# Altium schematic symbol library WE-TI.SchLib: 140 symbols (part 1 of 3)
Pins are listed as number, name and electrical type; pins without a type are passive.

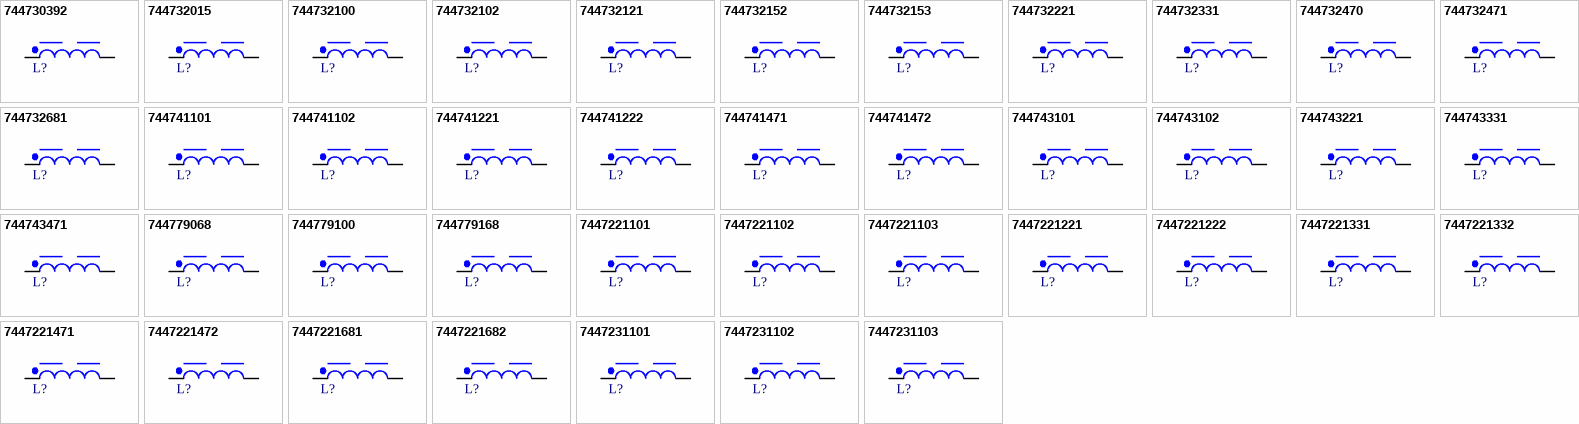
[diagram p0: symbols 744730392 to 7447231103]

## 744730392
designator L?, comment 3900uH, 0.18A  (value not drawn)
WE-TI Radial Leaded Wire Wound Inductor, size 8075, 3900uH, 0.18A, 12Ohm; Manufacturer Part Number: 744730392; Manufacturer: Wurth Elektronik; Case/Size Code: 8075; Saturation Current @ 10%: 0.2A; Self Resonant Frequency: 1.1MHz; Category: Power Inductors; Match Code: WE-TI; ComponentLink1Description: Website Link; ComponentLink1URL: https://www.we-online.com/redexpert/article/744730392?ad; ComponentLink2Description: Datasheet Link; ComponentLink2URL: https://www.we-online.com/redexpert/spec/744730392?ad; Mount: Through Hole; Operating Temperature Max: 125°C; Operating Temperature Min: -40°C; Packaging: Tray; Height: 8mm; Diameter: 9.5mm; DC Resistance Max: 12Ohm; Inductance: 3900uH; Rated Current: 0.18A
footprint WE-TI_8075
simulation model 8075_744730392_3900u
pins: 1, 2

## 744732015
designator L?, comment 1.5uH, 7A  (value not drawn)
WE-TI Radial Leaded Wire Wound Inductor, size 8075, 1.5uH, 7A, 0.01Ohm; Manufacturer Part Number: 744732015; Manufacturer: Wurth Elektronik; Case/Size Code: 8075; Saturation Current @ 10%: 9A; Self Resonant Frequency: 100MHz; Category: Power Inductors; Match Code: WE-TI; ComponentLink1Description: Website Link; ComponentLink1URL: https://www.we-online.com/redexpert/article/744732015?ad; ComponentLink2Description: Datasheet Link; ComponentLink2URL: https://www.we-online.com/redexpert/spec/744732015?ad; Mount: Through Hole; Operating Temperature Max: 125°C; Operating Temperature Min: -40°C; Packaging: Tray; Height: 8mm; Diameter: 9.5mm; DC Resistance Max: 0.01Ohm; Inductance: 1.5uH; Rated Current: 7A
footprint WE-TI_8075
simulation model 8075_744732015_1.5u
pins: 1, 2

## 744732100
designator L?, comment 10uH, 4A  (value not drawn)
WE-TI Radial Leaded Wire Wound Inductor, size 8075, 10uH, 4A, 0.033Ohm; Manufacturer Part Number: 744732100; Manufacturer: Wurth Elektronik; Case/Size Code: 8075; Self Resonant Frequency: 27MHz; Category: Power Inductors; Match Code: WE-TI; ComponentLink1Description: Website Link; ComponentLink1URL: https://www.we-online.com/redexpert/article/744732100?ad; ComponentLink2Description: Datasheet Link; ComponentLink2URL: https://www.we-online.com/redexpert/spec/744732100?ad; Mount: Through Hole; Operating Temperature Max: 125°C; Operating Temperature Min: -40°C; Packaging: Tray; Height: 8mm; Diameter: 9.5mm; DC Resistance Max: 0.033Ohm; Inductance: 10uH; Rated Current: 4A; Saturation Current @ 10%: 4A
footprint WE-TI_8075
simulation model 8075_744732100_10u
pins: 1, 2

## 744732102
designator L?, comment 1000uH, 0.33A  (value not drawn)
WE-TI Radial Leaded Wire Wound Inductor, size 8075, 1000uH, 0.33A, 3.4Ohm; Manufacturer Part Number: 744732102; Manufacturer: Wurth Elektronik; Case/Size Code: 8075; Saturation Current @ 10%: 0.6A; Self Resonant Frequency: 2.2MHz; Category: Power Inductors; Match Code: WE-TI; ComponentLink1Description: Website Link; ComponentLink1URL: https://www.we-online.com/redexpert/article/744732102?ad; ComponentLink2Description: Datasheet Link; ComponentLink2URL: https://www.we-online.com/redexpert/spec/744732102?ad; Mount: Through Hole; Operating Temperature Max: 125°C; Operating Temperature Min: -40°C; Packaging: Tray; Height: 8mm; Diameter: 9.5mm; DC Resistance Max: 3.4Ohm; Inductance: 1000uH; Rated Current: 0.33A
footprint WE-TI_8075
simulation model 8075_744732102_1000u
pins: 1, 2

## 744732121
designator L?, comment 120uH, 1A  (value not drawn)
WE-TI Radial Leaded Wire Wound Inductor, size 8075, 120uH, 1A, 0.38Ohm; Manufacturer Part Number: 744732121; Manufacturer: Wurth Elektronik; Case/Size Code: 8075; Saturation Current @ 10%: 1.1A; Self Resonant Frequency: 6.5MHz; Category: Power Inductors; Match Code: WE-TI; ComponentLink1Description: Website Link; ComponentLink1URL: https://www.we-online.com/redexpert/article/744732121?ad; ComponentLink2Description: Datasheet Link; ComponentLink2URL: https://www.we-online.com/redexpert/spec/744732121?ad; Mount: Through Hole; Operating Temperature Max: 125°C; Operating Temperature Min: -40°C; Packaging: Tray; Height: 8mm; Diameter: 9.5mm; DC Resistance Max: 0.38Ohm; Inductance: 120uH; Rated Current: 1A
footprint WE-TI_8075
simulation model 8075_744732121_120u
pins: 1, 2

## 744732152
designator L?, comment 1500uH, 0.29A  (value not drawn)
WE-TI Radial Leaded Wire Wound Inductor, size 8075, 1500uH, 0.29A, 4.7Ohm; Manufacturer Part Number: 744732152; Manufacturer: Wurth Elektronik; Case/Size Code: 8075; Saturation Current @ 10%: 0.5A; Self Resonant Frequency: 1.75MHz; Category: Power Inductors; Match Code: WE-TI; ComponentLink1Description: Website Link; ComponentLink1URL: https://www.we-online.com/redexpert/article/744732152?ad; ComponentLink2Description: Datasheet Link; ComponentLink2URL: https://www.we-online.com/redexpert/spec/744732152?ad; Mount: Through Hole; Operating Temperature Max: 125°C; Operating Temperature Min: -40°C; Packaging: Tray; Height: 8mm; Diameter: 9.5mm; DC Resistance Max: 4.7Ohm; Inductance: 1500uH; Rated Current: 0.29A
footprint WE-TI_8075
simulation model 8075_744732152_1500u
pins: 1, 2

## 744732153
designator L?, comment 15000uH, 0.1A  (value not drawn)
WE-TI Radial Leaded Wire Wound Inductor, size 8075, 15000uH, 0.1A, 60Ohm; Manufacturer Part Number: 744732153; Manufacturer: Wurth Elektronik; Case/Size Code: 8075; Saturation Current @ 10%: 0.15A; Self Resonant Frequency: 0.6MHz; Category: Power Inductors; Match Code: WE-TI; ComponentLink1Description: Website Link; ComponentLink1URL: https://www.we-online.com/redexpert/article/744732153?ad; ComponentLink2Description: Datasheet Link; ComponentLink2URL: https://www.we-online.com/redexpert/spec/744732153?ad; Mount: Through Hole; Operating Temperature Max: 125°C; Operating Temperature Min: -40°C; Packaging: Tray; Height: 8mm; Diameter: 9.5mm; DC Resistance Max: 60Ohm; Inductance: 15000uH; Rated Current: 0.1A
footprint WE-TI_8075
simulation model 8075_744732153_15000u
pins: 1, 2

## 744732221
designator L?, comment 220uH, 0.75A  (value not drawn)
WE-TI Radial Leaded Wire Wound Inductor, size 8075, 220uH, 0.75A, 0.7Ohm; Manufacturer Part Number: 744732221; Manufacturer: Wurth Elektronik; Case/Size Code: 8075; Saturation Current @ 10%: 1.2A; Self Resonant Frequency: 4.8MHz; Category: Power Inductors; Match Code: WE-TI; ComponentLink1Description: Website Link; ComponentLink1URL: https://www.we-online.com/redexpert/article/744732221?ad; ComponentLink2Description: Datasheet Link; ComponentLink2URL: https://www.we-online.com/redexpert/spec/744732221?ad; Mount: Through Hole; Operating Temperature Max: 125°C; Operating Temperature Min: -40°C; Packaging: Tray; Height: 8mm; Diameter: 9.5mm; DC Resistance Max: 0.7Ohm; Inductance: 220uH; Rated Current: 0.75A
footprint WE-TI_8075
simulation model 8075_744732221_220u
pins: 1, 2

## 744732331
designator L?, comment 330uH, 0.6A  (value not drawn)
WE-TI Radial Leaded Wire Wound Inductor, size 8075, 330uH, 0.6A, 1.2Ohm; Manufacturer Part Number: 744732331; Manufacturer: Wurth Elektronik; Case/Size Code: 8075; Saturation Current @ 10%: 1A; Self Resonant Frequency: 3.9MHz; Category: Power Inductors; Match Code: WE-TI; ComponentLink1Description: Website Link; ComponentLink1URL: https://www.we-online.com/redexpert/article/744732331?ad; ComponentLink2Description: Datasheet Link; ComponentLink2URL: https://www.we-online.com/redexpert/spec/744732331?ad; Mount: Through Hole; Operating Temperature Max: 125°C; Operating Temperature Min: -40°C; Packaging: Tray; Height: 8mm; Diameter: 9.5mm; DC Resistance Max: 1.2Ohm; Inductance: 330uH; Rated Current: 0.6A
footprint WE-TI_8075
simulation model 8075_744732331_330u
pins: 1, 2

## 744732470
designator L?, comment 47uH, 1.8A  (value not drawn)
WE-TI Radial Leaded Wire Wound Inductor, size 8075, 47uH, 1.8A, 0.14Ohm; Manufacturer Part Number: 744732470; Manufacturer: Wurth Elektronik; Case/Size Code: 8075; Saturation Current @ 10%: 1.9A; Self Resonant Frequency: 11MHz; Category: Power Inductors; Match Code: WE-TI; ComponentLink1Description: Website Link; ComponentLink1URL: https://www.we-online.com/redexpert/article/744732470?ad; ComponentLink2Description: Datasheet Link; ComponentLink2URL: https://www.we-online.com/redexpert/spec/744732470?ad; Mount: Through Hole; Operating Temperature Max: 125°C; Operating Temperature Min: -40°C; Packaging: Tray; Height: 8mm; Diameter: 9.5mm; DC Resistance Max: 0.14Ohm; Inductance: 47uH; Rated Current: 1.8A
footprint WE-TI_8075
simulation model 8075_744732470_47u
pins: 1, 2

## 744732471
designator L?, comment 470uH, 0.45A  (value not drawn)
WE-TI Radial Leaded Wire Wound Inductor, size 8075, 470uH, 0.45A, 1.7Ohm; Manufacturer Part Number: 744732471; Manufacturer: Wurth Elektronik; Case/Size Code: 8075; Saturation Current @ 10%: 0.9A; Self Resonant Frequency: 2.8MHz; Category: Power Inductors; Match Code: WE-TI; ComponentLink1Description: Website Link; ComponentLink1URL: https://www.we-online.com/redexpert/article/744732471?ad; ComponentLink2Description: Datasheet Link; ComponentLink2URL: https://www.we-online.com/redexpert/spec/744732471?ad; Mount: Through Hole; Operating Temperature Max: 125°C; Operating Temperature Min: -40°C; Packaging: Tray; Height: 8mm; Diameter: 9.5mm; DC Resistance Max: 1.7Ohm; Inductance: 470uH; Rated Current: 0.45A
footprint WE-TI_8075
simulation model 8075_744732471_470u
pins: 1, 2

## 744732681
designator L?, comment 680uH, 0.42A  (value not drawn)
WE-TI Radial Leaded Wire Wound Inductor, size 8075, 680uH, 0.42A, 2.2Ohm; Manufacturer Part Number: 744732681; Manufacturer: Wurth Elektronik; Case/Size Code: 8075; Saturation Current @ 10%: 0.75A; Self Resonant Frequency: 2.3MHz; Category: Power Inductors; Match Code: WE-TI; ComponentLink1Description: Website Link; ComponentLink1URL: https://www.we-online.com/redexpert/article/744732681?ad; ComponentLink2Description: Datasheet Link; ComponentLink2URL: https://www.we-online.com/redexpert/spec/744732681?ad; Mount: Through Hole; Operating Temperature Max: 125°C; Operating Temperature Min: -40°C; Packaging: Tray; Height: 8mm; Diameter: 9.5mm; DC Resistance Max: 2.2Ohm; Inductance: 680uH; Rated Current: 0.42A
footprint WE-TI_8075
simulation model 8075_744732681_680u
pins: 1, 2

## 744741101
designator L?, comment 100uH, 1.1A  (value not drawn)
WE-TI Radial Leaded Wire Wound Inductor, size 8055, 100uH, 1.1A, 1Ohm; Manufacturer Part Number: 744741101; Manufacturer: Wurth Elektronik; Case/Size Code: 8055; Saturation Current @ 10%: 0.9A; Self Resonant Frequency: 9.4MHz; Category: Power Inductors; Match Code: WE-TI; ComponentLink1Description: Website Link; ComponentLink1URL: https://www.we-online.com/redexpert/article/744741101?ad; ComponentLink2Description: Datasheet Link; ComponentLink2URL: https://www.we-online.com/redexpert/spec/744741101?ad; Mount: Through Hole; Operating Temperature Max: 125°C; Operating Temperature Min: -40°C; Packaging: Tray; Height: 5.5mm; Diameter: 8.5mm; DC Resistance Max: 1Ohm; Inductance: 100uH; Rated Current: 1.1A
footprint WE-TI_8055
simulation model 8055_744741101_100u
pins: 1, 2

## 744741102
designator L?, comment 1000uH, 0.29A  (value not drawn)
WE-TI Radial Leaded Wire Wound Inductor, size 8055, 1000uH, 0.29A, 6Ohm; Manufacturer Part Number: 744741102; Manufacturer: Wurth Elektronik; Case/Size Code: 8055; Saturation Current @ 10%: 0.3A; Self Resonant Frequency: 2.7MHz; Category: Power Inductors; Match Code: WE-TI; ComponentLink1Description: Website Link; ComponentLink1URL: https://www.we-online.com/redexpert/article/744741102?ad; ComponentLink2Description: Datasheet Link; ComponentLink2URL: https://www.we-online.com/redexpert/spec/744741102?ad; Mount: Through Hole; Operating Temperature Max: 125°C; Operating Temperature Min: -40°C; Packaging: Tray; Height: 5.5mm; Diameter: 8.5mm; DC Resistance Max: 6Ohm; Inductance: 1000uH; Rated Current: 0.29A
footprint WE-TI_8055
simulation model 8055_744741102_1000u
pins: 1, 2

## 744741221
designator L?, comment 220uH, 0.66A  (value not drawn)
WE-TI Radial Leaded Wire Wound Inductor, size 8055, 220uH, 0.66A, 1.5Ohm; Manufacturer Part Number: 744741221; Manufacturer: Wurth Elektronik; Case/Size Code: 8055; Saturation Current @ 10%: 0.75A; Self Resonant Frequency: 6MHz; Category: Power Inductors; Match Code: WE-TI; ComponentLink1Description: Website Link; ComponentLink1URL: https://www.we-online.com/redexpert/article/744741221?ad; ComponentLink2Description: Datasheet Link; ComponentLink2URL: https://www.we-online.com/redexpert/spec/744741221?ad; Mount: Through Hole; Operating Temperature Max: 125°C; Operating Temperature Min: -40°C; Packaging: Tray; Height: 5.5mm; Diameter: 8.5mm; DC Resistance Max: 1.5Ohm; Inductance: 220uH; Rated Current: 0.66A
footprint WE-TI_8055
simulation model 8055_744741221_220u
pins: 1, 2

## 744741222
designator L?, comment 2200uH, 0.21A  (value not drawn)
WE-TI Radial Leaded Wire Wound Inductor, size 8055, 2200uH, 0.21A, 11Ohm; Manufacturer Part Number: 744741222; Manufacturer: Wurth Elektronik; Case/Size Code: 8055; Saturation Current @ 10%: 0.2A; Self Resonant Frequency: 1.9MHz; Category: Power Inductors; Match Code: WE-TI; ComponentLink1Description: Website Link; ComponentLink1URL: https://www.we-online.com/redexpert/article/744741222?ad; ComponentLink2Description: Datasheet Link; ComponentLink2URL: https://www.we-online.com/redexpert/spec/744741222?ad; Mount: Through Hole; Operating Temperature Max: 125°C; Operating Temperature Min: -40°C; Packaging: Tray; Height: 5.5mm; Diameter: 8.5mm; DC Resistance Max: 11Ohm; Inductance: 2200uH; Rated Current: 0.21A
footprint WE-TI_8055
simulation model 8055_744741222_2200u
pins: 1, 2

## 744741471
designator L?, comment 470uH, 0.44A  (value not drawn)
WE-TI Radial Leaded Wire Wound Inductor, size 8055, 470uH, 0.44A, 3Ohm; Manufacturer Part Number: 744741471; Manufacturer: Wurth Elektronik; Case/Size Code: 8055; Saturation Current @ 10%: 0.4A; Self Resonant Frequency: 4.3MHz; Category: Power Inductors; Match Code: WE-TI; ComponentLink1Description: Website Link; ComponentLink1URL: https://www.we-online.com/redexpert/article/744741471?ad; ComponentLink2Description: Datasheet Link; ComponentLink2URL: https://www.we-online.com/redexpert/spec/744741471?ad; Mount: Through Hole; Operating Temperature Max: 125°C; Operating Temperature Min: -40°C; Packaging: Tray; Height: 5.5mm; Diameter: 8.5mm; DC Resistance Max: 3Ohm; Inductance: 470uH; Rated Current: 0.44A
footprint WE-TI_8055
simulation model 8055_744741471_470u
pins: 1, 2

## 744741472
designator L?, comment 4700uH, 0.15A  (value not drawn)
WE-TI Radial Leaded Wire Wound Inductor, size 8055, 4700uH, 0.15A, 25Ohm; Manufacturer Part Number: 744741472; Manufacturer: Wurth Elektronik; Case/Size Code: 8055; Self Resonant Frequency: 1.3MHz; Category: Power Inductors; Match Code: WE-TI; ComponentLink1Description: Website Link; ComponentLink1URL: https://www.we-online.com/redexpert/article/744741472?ad; ComponentLink2Description: Datasheet Link; ComponentLink2URL: https://www.we-online.com/redexpert/spec/744741472?ad; Mount: Through Hole; Operating Temperature Max: 125°C; Operating Temperature Min: -40°C; Packaging: Tray; Height: 5.5mm; Diameter: 8.5mm; DC Resistance Max: 25Ohm; Inductance: 4700uH; Rated Current: 0.15A; Saturation Current @ 10%: 0.15A
footprint WE-TI_8055
simulation model 8055_744741472_4700u
pins: 1, 2

## 744743101
designator L?, comment 100uH, 1.5A  (value not drawn)
WE-TI Radial Leaded Wire Wound Inductor, size 8012B, 100uH, 1.5A, 0.3Ohm; Manufacturer Part Number: 744743101; Manufacturer: Wurth Elektronik; Saturation Current @ 10%: 1.6A; Self Resonant Frequency: 5.1MHz; Category: Power Inductors; Match Code: WE-TI; ComponentLink1Description: Website Link; ComponentLink1URL: https://www.we-online.com/redexpert/article/744743101?ad; ComponentLink2Description: Datasheet Link; ComponentLink2URL: https://www.we-online.com/redexpert/spec/744743101?ad; Mount: Through Hole; Operating Temperature Max: 125°C; Operating Temperature Min: -40°C; Packaging: Tray; Case/Size Code: 8012B; Height: 12.5mm; Diameter: 8mm; DC Resistance Max: 0.3Ohm; Inductance: 100uH; Rated Current: 1.5A
footprint WE-TI_8012B
simulation model 8012B_744743101_100u
pins: 1, 2

## 744743102
designator L?, comment 1000uH, 0.42A  (value not drawn)
WE-TI Radial Leaded Wire Wound Inductor, size 8012B, 1000uH, 0.42A, 2.5Ohm; Manufacturer Part Number: 744743102; Manufacturer: Wurth Elektronik; Saturation Current @ 10%: 0.55A; Self Resonant Frequency: 1.6MHz; Category: Power Inductors; Match Code: WE-TI; ComponentLink1Description: Website Link; ComponentLink1URL: https://www.we-online.com/redexpert/article/744743102?ad; ComponentLink2Description: Datasheet Link; ComponentLink2URL: https://www.we-online.com/redexpert/spec/744743102?ad; Mount: Through Hole; Operating Temperature Max: 125°C; Operating Temperature Min: -40°C; Packaging: Tray; Case/Size Code: 8012B; Height: 12.5mm; Diameter: 8mm; DC Resistance Max: 2.5Ohm; Inductance: 1000uH; Rated Current: 0.42A
footprint WE-TI_8012B
simulation model 8012B_744743102_1000u
pins: 1, 2

## 744743221
designator L?, comment 220uH, 0.96A  (value not drawn)
WE-TI Radial Leaded Wire Wound Inductor, size 8012B, 220uH, 0.96A, 0.55Ohm; Manufacturer Part Number: 744743221; Manufacturer: Wurth Elektronik; Saturation Current @ 10%: 1.2A; Self Resonant Frequency: 3.5MHz; Category: Power Inductors; Match Code: WE-TI; ComponentLink1Description: Website Link; ComponentLink1URL: https://www.we-online.com/redexpert/article/744743221?ad; ComponentLink2Description: Datasheet Link; ComponentLink2URL: https://www.we-online.com/redexpert/spec/744743221?ad; Mount: Through Hole; Operating Temperature Max: 125°C; Operating Temperature Min: -40°C; Packaging: Tray; Case/Size Code: 8012B; Height: 12.5mm; Diameter: 8mm; DC Resistance Max: 0.55Ohm; Inductance: 220uH; Rated Current: 0.96A
footprint WE-TI_8012B
simulation model 8012B_744743221_220u
pins: 1, 2

## 744743331
designator L?, comment 330uH, 0.74A  (value not drawn)
WE-TI Radial Leaded Wire Wound Inductor, size 8012B, 330uH, 0.74A, 1.2Ohm; Manufacturer Part Number: 744743331; Manufacturer: Wurth Elektronik; Saturation Current @ 10%: 1A; Self Resonant Frequency: 2.8MHz; Category: Power Inductors; Match Code: WE-TI; ComponentLink1Description: Website Link; ComponentLink1URL: https://www.we-online.com/redexpert/article/744743331?ad; ComponentLink2Description: Datasheet Link; ComponentLink2URL: https://www.we-online.com/redexpert/spec/744743331?ad; Mount: Through Hole; Operating Temperature Max: 125°C; Operating Temperature Min: -40°C; Packaging: Tray; Case/Size Code: 8012B; Height: 12.5mm; Diameter: 8mm; DC Resistance Max: 1.2Ohm; Inductance: 330uH; Rated Current: 0.74A
footprint WE-TI_8012B
simulation model 8012B_744743331_330u
pins: 1, 2

## 744743471
designator L?, comment 470uH, 0.58A  (value not drawn)
WE-TI Radial Leaded Wire Wound Inductor, size 8012B, 470uH, 0.58A, 1.5Ohm; Manufacturer Part Number: 744743471; Manufacturer: Wurth Elektronik; Saturation Current @ 10%: 0.8A; Self Resonant Frequency: 2.3MHz; Category: Power Inductors; Match Code: WE-TI; ComponentLink1Description: Website Link; ComponentLink1URL: https://www.we-online.com/redexpert/article/744743471?ad; ComponentLink2Description: Datasheet Link; ComponentLink2URL: https://www.we-online.com/redexpert/spec/744743471?ad; Mount: Through Hole; Operating Temperature Max: 125°C; Operating Temperature Min: -40°C; Packaging: Tray; Case/Size Code: 8012B; Height: 12.5mm; Diameter: 8mm; DC Resistance Max: 1.5Ohm; Inductance: 470uH; Rated Current: 0.58A
footprint WE-TI_8012B
simulation model 8012B_744743471_470u
pins: 1, 2

## 744779068
designator L?, comment 6.8uH, 2.2A  (value not drawn)
WE-TI Radial Leaded Wire Wound Inductor, size 6065, 6.8uH, 2.2A, 0.035Ohm; Manufacturer Part Number: 744779068; Manufacturer: Wurth Elektronik; Case/Size Code: 6065; Saturation Current @ 10%: 2.8A; Self Resonant Frequency: 40MHz; Category: Power Inductors; Match Code: WE-TI; ComponentLink1Description: Website Link; ComponentLink1URL: https://www.we-online.com/redexpert/article/744779068?ad; ComponentLink2Description: Datasheet Link; ComponentLink2URL: https://www.we-online.com/redexpert/spec/744779068?ad; Mount: Through Hole; Operating Temperature Max: 125°C; Operating Temperature Min: -40°C; Packaging: Tray; Height: 6.5mm; Diameter: 6mm; DC Resistance Max: 0.035Ohm; Inductance: 6.8uH; Rated Current: 2.2A
footprint WE-TI_6065
simulation model 6065_744779068_6.8u
pins: 1, 2

## 744779100
designator L?, comment 10uH, 1.85A  (value not drawn)
WE-TI Radial Leaded Wire Wound Inductor, size 6065, 10uH, 1.85A, 0.05Ohm; Manufacturer Part Number: 744779100; Manufacturer: Wurth Elektronik; Case/Size Code: 6065; Saturation Current @ 10%: 2.1A; Self Resonant Frequency: 28MHz; Category: Power Inductors; Match Code: WE-TI; ComponentLink1Description: Website Link; ComponentLink1URL: https://www.we-online.com/redexpert/article/744779100?ad; ComponentLink2Description: Datasheet Link; ComponentLink2URL: https://www.we-online.com/redexpert/spec/744779100?ad; Mount: Through Hole; Operating Temperature Max: 125°C; Operating Temperature Min: -40°C; Packaging: Tray; Height: 6.5mm; Diameter: 6mm; DC Resistance Max: 0.05Ohm; Inductance: 10uH; Rated Current: 1.85A
footprint WE-TI_6065
simulation model 6065_744779100_10u
pins: 1, 2

## 744779168
designator L?, comment 68uH, 1.4A  (value not drawn)
WE-TI Radial Leaded Wire Wound Inductor, size 6065, 68uH, 1.4A, 0.28Ohm; Manufacturer Part Number: 744779168; Manufacturer: Wurth Elektronik; Case/Size Code: 6065; Saturation Current @ 10%: 0.72A; Self Resonant Frequency: 9.4MHz; Category: Power Inductors; Match Code: WE-TI; ComponentLink1Description: Website Link; ComponentLink1URL: https://www.we-online.com/redexpert/article/744779168?ad; ComponentLink2Description: Datasheet Link; ComponentLink2URL: https://www.we-online.com/redexpert/spec/744779168?ad; Mount: Through Hole; Operating Temperature Max: 125°C; Operating Temperature Min: -40°C; Packaging: Tray; Height: 6.5mm; Diameter: 6mm; DC Resistance Max: 0.28Ohm; Inductance: 68uH; Rated Current: 1.4A
footprint WE-TI_6065
simulation model 6065_744779168_68u
pins: 1, 2

## 7447221101
designator L?, comment 100uH, 2.45A  (value not drawn)
WE-TI Radial Leaded Wire Wound Inductor, size 1016, 100uH, 2.45A, 0.1Ohm; Manufacturer Part Number: 7447221101; Manufacturer: Wurth Elektronik; Case/Size Code: 1016; Saturation Current @ 10%: 2.75A; Self Resonant Frequency: 4MHz; Category: Power Inductors; Match Code: WE-TI; ComponentLink1Description: Website Link; ComponentLink1URL: https://www.we-online.com/redexpert/article/7447221101?ad; ComponentLink2Description: Datasheet Link; ComponentLink2URL: https://www.we-online.com/redexpert/spec/7447221101?ad; Mount: Through Hole; Operating Temperature Max: 125°C; Operating Temperature Min: -40°C; Packaging: Tray; Height: 17mm; Diameter: 11mm; DC Resistance Max: 0.1Ohm; Inductance: 100uH; Rated Current: 2.45A
footprint WE-TI_1016
simulation model 1016_7447221101_100u
pins: 1, 2

## 7447221102
designator L?, comment 1000uH, 0.75A  (value not drawn)
WE-TI Radial Leaded Wire Wound Inductor, size 1016, 1000uH, 0.75A, 0.98Ohm; Manufacturer Part Number: 7447221102; Manufacturer: Wurth Elektronik; Case/Size Code: 1016; Saturation Current @ 10%: 0.9A; Self Resonant Frequency: 1MHz; Category: Power Inductors; Match Code: WE-TI; ComponentLink1Description: Website Link; ComponentLink1URL: https://www.we-online.com/redexpert/article/7447221102?ad; ComponentLink2Description: Datasheet Link; ComponentLink2URL: https://www.we-online.com/redexpert/spec/7447221102?ad; Mount: Through Hole; Operating Temperature Max: 125°C; Operating Temperature Min: -40°C; Packaging: Tray; Height: 17mm; Diameter: 11mm; DC Resistance Max: 0.98Ohm; Inductance: 1000uH; Rated Current: 0.75A
footprint WE-TI_1016
simulation model 1016_7447221102_1000u
pins: 1, 2

## 7447221103
designator L?, comment 10000uH, 0.23A  (value not drawn)
WE-TI Radial Leaded Wire Wound Inductor, size 1016, 10000uH, 0.23A, 9.7Ohm; Manufacturer Part Number: 7447221103; Manufacturer: Wurth Elektronik; Case/Size Code: 1016; Saturation Current @ 10%: 0.29A; Self Resonant Frequency: 0.26MHz; Category: Power Inductors; Match Code: WE-TI; ComponentLink1Description: Website Link; ComponentLink1URL: https://www.we-online.com/redexpert/article/7447221103?ad; ComponentLink2Description: Datasheet Link; ComponentLink2URL: https://www.we-online.com/redexpert/spec/7447221103?ad; Mount: Through Hole; Operating Temperature Max: 125°C; Operating Temperature Min: -40°C; Packaging: Tray; Height: 17mm; Diameter: 11mm; DC Resistance Max: 9.7Ohm; Inductance: 10000uH; Rated Current: 0.23A
footprint WE-TI_1016
simulation model 1016_7447221103_10000u
pins: 1, 2

## 7447221221
designator L?, comment 220uH, 1.65A  (value not drawn)
WE-TI Radial Leaded Wire Wound Inductor, size 1016, 220uH, 1.65A, 0.22Ohm; Manufacturer Part Number: 7447221221; Manufacturer: Wurth Elektronik; Case/Size Code: 1016; Saturation Current @ 10%: 1.9A; Self Resonant Frequency: 2.5MHz; Category: Power Inductors; Match Code: WE-TI; ComponentLink1Description: Website Link; ComponentLink1URL: https://www.we-online.com/redexpert/article/7447221221?ad; ComponentLink2Description: Datasheet Link; ComponentLink2URL: https://www.we-online.com/redexpert/spec/7447221221?ad; Mount: Through Hole; Operating Temperature Max: 125°C; Operating Temperature Min: -40°C; Packaging: Tray; Height: 17mm; Diameter: 11mm; DC Resistance Max: 0.22Ohm; Inductance: 220uH; Rated Current: 1.65A
footprint WE-TI_1016
simulation model 1016_7447221221_220u
pins: 1, 2

## 7447221222
designator L?, comment 2200uH, 0.5A  (value not drawn)
WE-TI Radial Leaded Wire Wound Inductor, size 1016, 2200uH, 0.5A, 2.1Ohm; Manufacturer Part Number: 7447221222; Manufacturer: Wurth Elektronik; Case/Size Code: 1016; Saturation Current @ 10%: 0.61A; Self Resonant Frequency: 0.65MHz; Category: Power Inductors; Match Code: WE-TI; ComponentLink1Description: Website Link; ComponentLink1URL: https://www.we-online.com/redexpert/article/7447221222?ad; ComponentLink2Description: Datasheet Link; ComponentLink2URL: https://www.we-online.com/redexpert/spec/7447221222?ad; Mount: Through Hole; Operating Temperature Max: 125°C; Operating Temperature Min: -40°C; Packaging: Tray; Height: 17mm; Diameter: 11mm; DC Resistance Max: 2.1Ohm; Inductance: 2200uH; Rated Current: 0.5A
footprint WE-TI_1016
simulation model 1016_7447221222_2200u
pins: 1, 2

## 7447221331
designator L?, comment 330uH, 1.35A  (value not drawn)
WE-TI Radial Leaded Wire Wound Inductor, size 1016, 330uH, 1.35A, 0.32Ohm; Manufacturer Part Number: 7447221331; Manufacturer: Wurth Elektronik; Case/Size Code: 1016; Saturation Current @ 10%: 1.55A; Self Resonant Frequency: 2MHz; Category: Power Inductors; Match Code: WE-TI; ComponentLink1Description: Website Link; ComponentLink1URL: https://www.we-online.com/redexpert/article/7447221331?ad; ComponentLink2Description: Datasheet Link; ComponentLink2URL: https://www.we-online.com/redexpert/spec/7447221331?ad; Mount: Through Hole; Operating Temperature Max: 125°C; Operating Temperature Min: -40°C; Packaging: Tray; Height: 17mm; Diameter: 11mm; DC Resistance Max: 0.32Ohm; Inductance: 330uH; Rated Current: 1.35A
footprint WE-TI_1016
simulation model 1016_7447221331_330u
pins: 1, 2

## 7447221332
designator L?, comment 3300uH, 0.4A  (value not drawn)
WE-TI Radial Leaded Wire Wound Inductor, size 1016, 3300uH, 0.4A, 3.2Ohm; Manufacturer Part Number: 7447221332; Manufacturer: Wurth Elektronik; Case/Size Code: 1016; Saturation Current @ 10%: 0.5A; Self Resonant Frequency: 0.5MHz; Category: Power Inductors; Match Code: WE-TI; ComponentLink1Description: Website Link; ComponentLink1URL: https://www.we-online.com/redexpert/article/7447221332?ad; ComponentLink2Description: Datasheet Link; ComponentLink2URL: https://www.we-online.com/redexpert/spec/7447221332?ad; Mount: Through Hole; Operating Temperature Max: 125°C; Operating Temperature Min: -40°C; Packaging: Tray; Height: 17mm; Diameter: 11mm; DC Resistance Max: 3.2Ohm; Inductance: 3300uH; Rated Current: 0.4A
footprint WE-TI_1016
simulation model 1016_7447221332_3300u
pins: 1, 2

## 7447221471
designator L?, comment 470uH, 1.1A  (value not drawn)
WE-TI Radial Leaded Wire Wound Inductor, size 1016, 470uH, 1.1A, 0.46Ohm; Manufacturer Part Number: 7447221471; Manufacturer: Wurth Elektronik; Case/Size Code: 1016; Saturation Current @ 10%: 1.3A; Self Resonant Frequency: 1.6MHz; Category: Power Inductors; Match Code: WE-TI; ComponentLink1Description: Website Link; ComponentLink1URL: https://www.we-online.com/redexpert/article/7447221471?ad; ComponentLink2Description: Datasheet Link; ComponentLink2URL: https://www.we-online.com/redexpert/spec/7447221471?ad; Mount: Through Hole; Operating Temperature Max: 125°C; Operating Temperature Min: -40°C; Packaging: Tray; Height: 17mm; Diameter: 11mm; DC Resistance Max: 0.46Ohm; Inductance: 470uH; Rated Current: 1.1A
footprint WE-TI_1016
simulation model 1016_7447221471_470u
pins: 1, 2

## 7447221472
designator L?, comment 4700uH, 0.34A  (value not drawn)
WE-TI Radial Leaded Wire Wound Inductor, size 1016, 4700uH, 0.34A, 4.6Ohm; Manufacturer Part Number: 7447221472; Manufacturer: Wurth Elektronik; Case/Size Code: 1016; Saturation Current @ 10%: 0.42A; Self Resonant Frequency: 0.41MHz; Category: Power Inductors; Match Code: WE-TI; ComponentLink1Description: Website Link; ComponentLink1URL: https://www.we-online.com/redexpert/article/7447221472?ad; ComponentLink2Description: Datasheet Link; ComponentLink2URL: https://www.we-online.com/redexpert/spec/7447221472?ad; Mount: Through Hole; Operating Temperature Max: 125°C; Operating Temperature Min: -40°C; Packaging: Tray; Height: 17mm; Diameter: 11mm; DC Resistance Max: 4.6Ohm; Inductance: 4700uH; Rated Current: 0.34A
footprint WE-TI_1016
simulation model 1016_7447221472_4700u
pins: 1, 2

## 7447221681
designator L?, comment 680uH, 0.9A  (value not drawn)
WE-TI Radial Leaded Wire Wound Inductor, size 1016, 680uH, 0.9A, 0.67Ohm; Manufacturer Part Number: 7447221681; Manufacturer: Wurth Elektronik; Case/Size Code: 1016; Saturation Current @ 10%: 1.1A; Self Resonant Frequency: 1.3MHz; Category: Power Inductors; Match Code: WE-TI; ComponentLink1Description: Website Link; ComponentLink1URL: https://www.we-online.com/redexpert/article/7447221681?ad; ComponentLink2Description: Datasheet Link; ComponentLink2URL: https://www.we-online.com/redexpert/spec/7447221681?ad; Mount: Through Hole; Operating Temperature Max: 125°C; Operating Temperature Min: -40°C; Packaging: Tray; Height: 17mm; Diameter: 11mm; DC Resistance Max: 0.67Ohm; Inductance: 680uH; Rated Current: 0.9A
footprint WE-TI_1016
simulation model 1016_7447221681_680u
pins: 1, 2

## 7447221682
designator L?, comment 6800uH, 0.28A  (value not drawn)
WE-TI Radial Leaded Wire Wound Inductor, size 1016, 6800uH, 0.28A, 6.6Ohm; Manufacturer Part Number: 7447221682; Manufacturer: Wurth Elektronik; Case/Size Code: 1016; Saturation Current @ 10%: 0.35A; Self Resonant Frequency: 0.33MHz; Category: Power Inductors; Match Code: WE-TI; ComponentLink1Description: Website Link; ComponentLink1URL: https://www.we-online.com/redexpert/article/7447221682?ad; ComponentLink2Description: Datasheet Link; ComponentLink2URL: https://www.we-online.com/redexpert/spec/7447221682?ad; Mount: Through Hole; Operating Temperature Max: 125°C; Operating Temperature Min: -40°C; Packaging: Tray; Height: 17mm; Diameter: 11mm; DC Resistance Max: 6.6Ohm; Inductance: 6800uH; Rated Current: 0.28A
footprint WE-TI_1016
simulation model 1016_7447221682_6800u
pins: 1, 2

## 7447231101
designator L?, comment 100uH, 2.6A  (value not drawn)
WE-TI Radial Leaded Wire Wound Inductor, size 1018, 100uH, 2.6A, 0.09Ohm; Manufacturer Part Number: 7447231101; Manufacturer: Wurth Elektronik; Case/Size Code: 1018; Saturation Current @ 10%: 3.1A; Self Resonant Frequency: 3.6MHz; Category: Power Inductors; Match Code: WE-TI; ComponentLink1Description: Website Link; ComponentLink1URL: https://www.we-online.com/redexpert/article/7447231101?ad; ComponentLink2Description: Datasheet Link; ComponentLink2URL: https://www.we-online.com/redexpert/spec/7447231101?ad; Mount: Through Hole; Operating Temperature Max: 125°C; Operating Temperature Min: -40°C; Packaging: Tray; Height: 19mm; Diameter: 11mm; DC Resistance Max: 0.09Ohm; Inductance: 100uH; Rated Current: 2.6A
footprint WE-TI_1018
simulation model 1018_7447231101_100u
pins: 1, 2

## 7447231102
designator L?, comment 1000uH, 0.8A  (value not drawn)
WE-TI Radial Leaded Wire Wound Inductor, size 1018, 1000uH, 0.8A, 0.86Ohm; Manufacturer Part Number: 7447231102; Manufacturer: Wurth Elektronik; Case/Size Code: 1018; Saturation Current @ 10%: 1A; Self Resonant Frequency: 1.1MHz; Category: Power Inductors; Match Code: WE-TI; ComponentLink1Description: Website Link; ComponentLink1URL: https://www.we-online.com/redexpert/article/7447231102?ad; ComponentLink2Description: Datasheet Link; ComponentLink2URL: https://www.we-online.com/redexpert/spec/7447231102?ad; Mount: Through Hole; Operating Temperature Max: 125°C; Operating Temperature Min: -40°C; Packaging: Tray; Height: 19mm; Diameter: 11mm; DC Resistance Max: 0.86Ohm; Inductance: 1000uH; Rated Current: 0.8A
footprint WE-TI_1018
simulation model 1018_7447231102_1000u
pins: 1, 2

## 7447231103
designator L?, comment 10000uH, 0.25A  (value not drawn)
WE-TI Radial Leaded Wire Wound Inductor, size 1018, 10000uH, 0.25A, 8.5Ohm; Manufacturer Part Number: 7447231103; Manufacturer: Wurth Elektronik; Case/Size Code: 1018; Saturation Current @ 10%: 0.32A; Self Resonant Frequency: 0.32MHz; Category: Power Inductors; Match Code: WE-TI; ComponentLink1Description: Website Link; ComponentLink1URL: https://www.we-online.com/redexpert/article/7447231103?ad; ComponentLink2Description: Datasheet Link; ComponentLink2URL: https://www.we-online.com/redexpert/spec/7447231103?ad; Mount: Through Hole; Operating Temperature Max: 125°C; Operating Temperature Min: -40°C; Packaging: Tray; Height: 19mm; Diameter: 11mm; DC Resistance Max: 8.5Ohm; Inductance: 10000uH; Rated Current: 0.25A
footprint WE-TI_1018
simulation model 1018_7447231103_10000u
pins: 1, 2

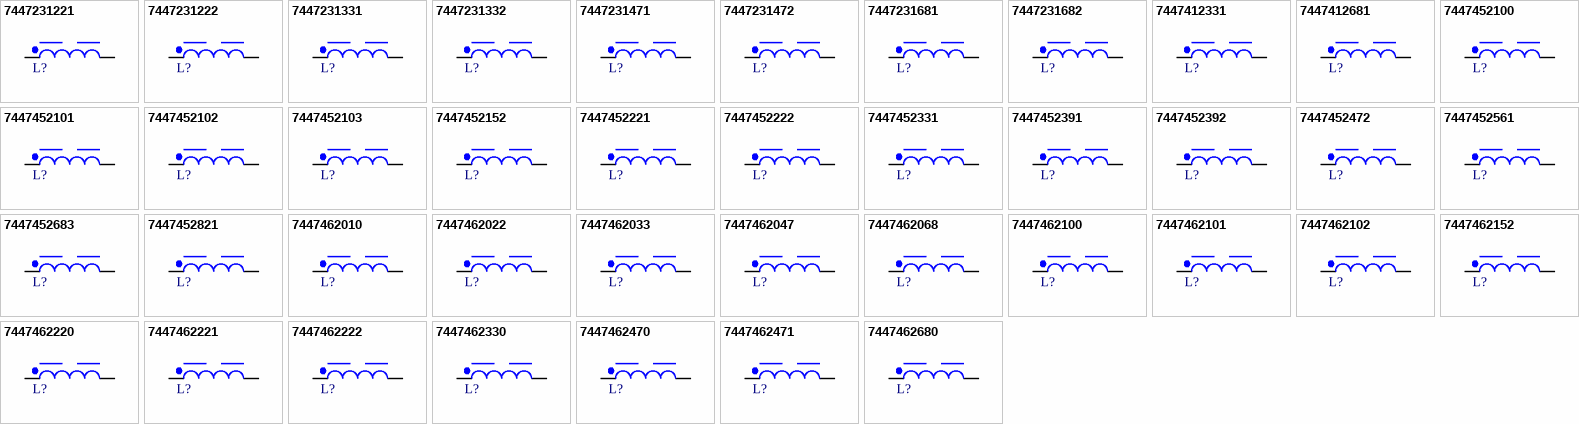
[diagram p1: symbols 7447231221 to 7447462680]

## 7447231221
designator L?, comment 220uH, 1.75A  (value not drawn)
WE-TI Radial Leaded Wire Wound Inductor, size 1018, 220uH, 1.75A, 0.2Ohm; Manufacturer Part Number: 7447231221; Manufacturer: Wurth Elektronik; Case/Size Code: 1018; Saturation Current @ 10%: 2.1A; Self Resonant Frequency: 2.4MHz; Category: Power Inductors; Match Code: WE-TI; ComponentLink1Description: Website Link; ComponentLink1URL: https://www.we-online.com/redexpert/article/7447231221?ad; ComponentLink2Description: Datasheet Link; ComponentLink2URL: https://www.we-online.com/redexpert/spec/7447231221?ad; Mount: Through Hole; Operating Temperature Max: 125°C; Operating Temperature Min: -40°C; Packaging: Tray; Height: 19mm; Diameter: 11mm; DC Resistance Max: 0.2Ohm; Inductance: 220uH; Rated Current: 1.75A
footprint WE-TI_1018
simulation model 1018_7447231221_220u
pins: 1, 2

## 7447231222
designator L?, comment 2200uH, 0.54A  (value not drawn)
WE-TI Radial Leaded Wire Wound Inductor, size 1018, 2200uH, 0.54A, 1.9Ohm; Manufacturer Part Number: 7447231222; Manufacturer: Wurth Elektronik; Case/Size Code: 1018; Saturation Current @ 10%: 0.7A; Self Resonant Frequency: 0.72MHz; Category: Power Inductors; Match Code: WE-TI; ComponentLink1Description: Website Link; ComponentLink1URL: https://www.we-online.com/redexpert/article/7447231222?ad; ComponentLink2Description: Datasheet Link; ComponentLink2URL: https://www.we-online.com/redexpert/spec/7447231222?ad; Mount: Through Hole; Operating Temperature Max: 125°C; Operating Temperature Min: -40°C; Packaging: Tray; Height: 19mm; Diameter: 11mm; DC Resistance Max: 1.9Ohm; Inductance: 2200uH; Rated Current: 0.54A
footprint WE-TI_1018
simulation model 1018_7447231222_2200u
pins: 1, 2

## 7447231331
designator L?, comment 330uH, 1.4A  (value not drawn)
WE-TI Radial Leaded Wire Wound Inductor, size 1018, 330uH, 1.4A, 0.29Ohm; Manufacturer Part Number: 7447231331; Manufacturer: Wurth Elektronik; Case/Size Code: 1018; Saturation Current @ 10%: 1.75A; Self Resonant Frequency: 1.9MHz; Category: Power Inductors; Match Code: WE-TI; ComponentLink1Description: Website Link; ComponentLink1URL: https://www.we-online.com/redexpert/article/7447231331?ad; ComponentLink2Description: Datasheet Link; ComponentLink2URL: https://www.we-online.com/redexpert/spec/7447231331?ad; Mount: Through Hole; Operating Temperature Max: 125°C; Operating Temperature Min: -40°C; Packaging: Tray; Height: 19mm; Diameter: 11mm; DC Resistance Max: 0.29Ohm; Inductance: 330uH; Rated Current: 1.4A
footprint WE-TI_1018
simulation model 1018_7447231331_330u
pins: 1, 2

## 7447231332
designator L?, comment 3300uH, 0.43A  (value not drawn)
WE-TI Radial Leaded Wire Wound Inductor, size 1018, 3300uH, 0.43A, 2.8Ohm; Manufacturer Part Number: 7447231332; Manufacturer: Wurth Elektronik; Case/Size Code: 1018; Saturation Current @ 10%: 0.55A; Self Resonant Frequency: 0.58MHz; Category: Power Inductors; Match Code: WE-TI; ComponentLink1Description: Website Link; ComponentLink1URL: https://www.we-online.com/redexpert/article/7447231332?ad; ComponentLink2Description: Datasheet Link; ComponentLink2URL: https://www.we-online.com/redexpert/spec/7447231332?ad; Mount: Through Hole; Operating Temperature Max: 125°C; Operating Temperature Min: -40°C; Packaging: Tray; Height: 19mm; Diameter: 11mm; DC Resistance Max: 2.8Ohm; Inductance: 3300uH; Rated Current: 0.43A
footprint WE-TI_1018
simulation model 1018_7447231332_3300u
pins: 1, 2

## 7447231471
designator L?, comment 470uH, 1.2A  (value not drawn)
WE-TI Radial Leaded Wire Wound Inductor, size 1018, 470uH, 1.2A, 0.41Ohm; Manufacturer Part Number: 7447231471; Manufacturer: Wurth Elektronik; Case/Size Code: 1018; Saturation Current @ 10%: 1.5A; Self Resonant Frequency: 1.6MHz; Category: Power Inductors; Match Code: WE-TI; ComponentLink1Description: Website Link; ComponentLink1URL: https://www.we-online.com/redexpert/article/7447231471?ad; ComponentLink2Description: Datasheet Link; ComponentLink2URL: https://www.we-online.com/redexpert/spec/7447231471?ad; Mount: Through Hole; Operating Temperature Max: 125°C; Operating Temperature Min: -40°C; Packaging: Tray; Height: 19mm; Diameter: 11mm; DC Resistance Max: 0.41Ohm; Inductance: 470uH; Rated Current: 1.2A
footprint WE-TI_1018
simulation model 1018_7447231471_470u
pins: 1, 2

## 7447231472
designator L?, comment 4700uH, 0.36A  (value not drawn)
WE-TI Radial Leaded Wire Wound Inductor, size 1018, 4700uH, 0.36A, 4Ohm; Manufacturer Part Number: 7447231472; Manufacturer: Wurth Elektronik; Case/Size Code: 1018; Saturation Current @ 10%: 0.47A; Self Resonant Frequency: 0.48MHz; Category: Power Inductors; Match Code: WE-TI; ComponentLink1Description: Website Link; ComponentLink1URL: https://www.we-online.com/redexpert/article/7447231472?ad; ComponentLink2Description: Datasheet Link; ComponentLink2URL: https://www.we-online.com/redexpert/spec/7447231472?ad; Mount: Through Hole; Operating Temperature Max: 125°C; Operating Temperature Min: -40°C; Packaging: Tray; Height: 19mm; Diameter: 11mm; DC Resistance Max: 4Ohm; Inductance: 4700uH; Rated Current: 0.36A
footprint WE-TI_1018
simulation model 1018_7447231472_4700u
pins: 1, 2

## 7447231681
designator L?, comment 680uH, 1A  (value not drawn)
WE-TI Radial Leaded Wire Wound Inductor, size 1018, 680uH, 1A, 0.59Ohm; Manufacturer Part Number: 7447231681; Manufacturer: Wurth Elektronik; Case/Size Code: 1018; Saturation Current @ 10%: 1.2A; Self Resonant Frequency: 1.3MHz; Category: Power Inductors; Match Code: WE-TI; ComponentLink1Description: Website Link; ComponentLink1URL: https://www.we-online.com/redexpert/article/7447231681?ad; ComponentLink2Description: Datasheet Link; ComponentLink2URL: https://www.we-online.com/redexpert/spec/7447231681?ad; Mount: Through Hole; Operating Temperature Max: 125°C; Operating Temperature Min: -40°C; Packaging: Tray; Height: 19mm; Diameter: 11mm; DC Resistance Max: 0.59Ohm; Inductance: 680uH; Rated Current: 1A
footprint WE-TI_1018
simulation model 1018_7447231681_680u
pins: 1, 2

## 7447231682
designator L?, comment 6800uH, 0.3A  (value not drawn)
WE-TI Radial Leaded Wire Wound Inductor, size 1018, 6800uH, 0.3A, 5.75Ohm; Manufacturer Part Number: 7447231682; Manufacturer: Wurth Elektronik; Case/Size Code: 1018; Saturation Current @ 10%: 0.39A; Self Resonant Frequency: 0.4MHz; Category: Power Inductors; Match Code: WE-TI; ComponentLink1Description: Website Link; ComponentLink1URL: https://www.we-online.com/redexpert/article/7447231682?ad; ComponentLink2Description: Datasheet Link; ComponentLink2URL: https://www.we-online.com/redexpert/spec/7447231682?ad; Mount: Through Hole; Operating Temperature Max: 125°C; Operating Temperature Min: -40°C; Packaging: Tray; Height: 19mm; Diameter: 11mm; DC Resistance Max: 5.75Ohm; Inductance: 6800uH; Rated Current: 0.3A
footprint WE-TI_1018
simulation model 1018_7447231682_6800u
pins: 1, 2

## 7447412331
designator L?, comment 330uH, 0.5A  (value not drawn)
WE-TI Radial Leaded Wire Wound Inductor, size 8055, 330uH, 0.5A, 2Ohm; Manufacturer Part Number: 7447412331; Manufacturer: Wurth Elektronik; Case/Size Code: 8055; Saturation Current @ 10%: 0.6A; Self Resonant Frequency: 5.1MHz; Category: Power Inductors; Match Code: WE-TI; ComponentLink1Description: Website Link; ComponentLink1URL: https://www.we-online.com/redexpert/article/7447412331?ad; ComponentLink2Description: Datasheet Link; ComponentLink2URL: https://www.we-online.com/redexpert/spec/7447412331?ad; Mount: Through Hole; Operating Temperature Max: 125°C; Operating Temperature Min: -40°C; Packaging: Tray; Height: 5.5mm; Diameter: 8.5mm; DC Resistance Max: 2Ohm; Inductance: 330uH; Rated Current: 0.5A
footprint WE-TI_8055
simulation model 8055_7447412331_330u
pins: 1, 2

## 7447412681
designator L?, comment 680uH, 0.33A  (value not drawn)
WE-TI Radial Leaded Wire Wound Inductor, size 8055, 680uH, 0.33A, 4Ohm; Manufacturer Part Number: 7447412681; Manufacturer: Wurth Elektronik; Case/Size Code: 8055; Saturation Current @ 10%: 0.35A; Self Resonant Frequency: 3.3MHz; Category: Power Inductors; Match Code: WE-TI; ComponentLink1Description: Website Link; ComponentLink1URL: https://www.we-online.com/redexpert/article/7447412681?ad; ComponentLink2Description: Datasheet Link; ComponentLink2URL: https://www.we-online.com/redexpert/spec/7447412681?ad; Mount: Through Hole; Operating Temperature Max: 125°C; Operating Temperature Min: -40°C; Packaging: Tray; Height: 5.5mm; Diameter: 8.5mm; DC Resistance Max: 4Ohm; Inductance: 680uH; Rated Current: 0.33A
footprint WE-TI_8055
simulation model 8055_7447412681_680u
pins: 1, 2

## 7447452100
designator L?, comment 10uH, 4.7A  (value not drawn)
WE-TI Radial Leaded Wire Wound Inductor, size 8012, 10uH, 4.7A, 0.02Ohm; Manufacturer Part Number: 7447452100; Manufacturer: Wurth Elektronik; Case/Size Code: 8012; Saturation Current @ 10%: 4.5A; Self Resonant Frequency: 20MHz; Category: Power Inductors; Match Code: WE-TI; ComponentLink1Description: Website Link; ComponentLink1URL: https://www.we-online.com/redexpert/article/7447452100?ad; ComponentLink2Description: Datasheet Link; ComponentLink2URL: https://www.we-online.com/redexpert/spec/7447452100?ad; Mount: Through Hole; Operating Temperature Max: 125°C; Operating Temperature Min: -40°C; Packaging: Tray; Height: 13.5mm; Diameter: 9.5mm; DC Resistance Max: 0.02Ohm; Inductance: 10uH; Rated Current: 4.7A
footprint WE-TI_8012
simulation model 8012_7447452100_10u
pins: 1, 2

## 7447452101
designator L?, comment 100uH, 1.8A  (value not drawn)
WE-TI Radial Leaded Wire Wound Inductor, size 8012, 100uH, 1.8A, 0.16Ohm; Manufacturer Part Number: 7447452101; Manufacturer: Wurth Elektronik; Case/Size Code: 8012; Saturation Current @ 10%: 1.5A; Self Resonant Frequency: 4.8MHz; Category: Power Inductors; Match Code: WE-TI; ComponentLink1Description: Website Link; ComponentLink1URL: https://www.we-online.com/redexpert/article/7447452101?ad; ComponentLink2Description: Datasheet Link; ComponentLink2URL: https://www.we-online.com/redexpert/spec/7447452101?ad; Mount: Through Hole; Operating Temperature Max: 125°C; Operating Temperature Min: -40°C; Packaging: Tray; Height: 13.5mm; Diameter: 9.5mm; DC Resistance Max: 0.16Ohm; Inductance: 100uH; Rated Current: 1.8A
footprint WE-TI_8012
simulation model 8012_7447452101_100u
pins: 1, 2

## 7447452102
designator L?, comment 1000uH, 0.6A  (value not drawn)
WE-TI Radial Leaded Wire Wound Inductor, size 8012, 1000uH, 0.6A, 1.55Ohm; Manufacturer Part Number: 7447452102; Manufacturer: Wurth Elektronik; Case/Size Code: 8012; Saturation Current @ 10%: 0.55A; Self Resonant Frequency: 1.4MHz; Category: Power Inductors; Match Code: WE-TI; ComponentLink1Description: Website Link; ComponentLink1URL: https://www.we-online.com/redexpert/article/7447452102?ad; ComponentLink2Description: Datasheet Link; ComponentLink2URL: https://www.we-online.com/redexpert/spec/7447452102?ad; Mount: Through Hole; Operating Temperature Max: 125°C; Operating Temperature Min: -40°C; Packaging: Tray; Height: 13.5mm; Diameter: 9.5mm; DC Resistance Max: 1.55Ohm; Inductance: 1000uH; Rated Current: 0.6A
footprint WE-TI_8012
simulation model 8012_7447452102_1000u
pins: 1, 2

## 7447452103
designator L?, comment 10000uH, 0.18A  (value not drawn)
WE-TI Radial Leaded Wire Wound Inductor, size 8012, 10000uH, 0.18A, 16.6Ohm; Manufacturer Part Number: 7447452103; Manufacturer: Wurth Elektronik; Case/Size Code: 8012; Self Resonant Frequency: 0.45MHz; Category: Power Inductors; Match Code: WE-TI; ComponentLink1Description: Website Link; ComponentLink1URL: https://www.we-online.com/redexpert/article/7447452103?ad; ComponentLink2Description: Datasheet Link; ComponentLink2URL: https://www.we-online.com/redexpert/spec/7447452103?ad; Mount: Through Hole; Operating Temperature Max: 125°C; Operating Temperature Min: -40°C; Packaging: Tray; Height: 13.5mm; Diameter: 9.5mm; DC Resistance Max: 16.6Ohm; Inductance: 10000uH; Rated Current: 0.18A; Saturation Current @ 10%: 0.18A
footprint WE-TI_8012
simulation model 8012_7447452103_10000u
pins: 1, 2

## 7447452152
designator L?, comment 1500uH, 0.5A  (value not drawn)
WE-TI Radial Leaded Wire Wound Inductor, size 8012, 1500uH, 0.5A, 2.1Ohm; Manufacturer Part Number: 7447452152; Manufacturer: Wurth Elektronik; Case/Size Code: 8012; Saturation Current @ 10%: 0.43A; Self Resonant Frequency: 1.37MHz; Category: Power Inductors; Match Code: WE-TI; ComponentLink1Description: Website Link; ComponentLink1URL: https://www.we-online.com/redexpert/article/7447452152?ad; ComponentLink2Description: Datasheet Link; ComponentLink2URL: https://www.we-online.com/redexpert/spec/7447452152?ad; Mount: Through Hole; Operating Temperature Max: 125°C; Operating Temperature Min: -40°C; Packaging: Tray; Height: 13.5mm; Diameter: 9.5mm; DC Resistance Max: 2.1Ohm; Inductance: 1500uH; Rated Current: 0.5A
footprint WE-TI_8012
simulation model 8012_7447452152_1500u
pins: 1, 2

## 7447452221
designator L?, comment 220uH, 1.2A  (value not drawn)
WE-TI Radial Leaded Wire Wound Inductor, size 8012, 220uH, 1.2A, 0.29Ohm; Manufacturer Part Number: 7447452221; Manufacturer: Wurth Elektronik; Case/Size Code: 8012; Saturation Current @ 10%: 1.05A; Self Resonant Frequency: 3.4MHz; Category: Power Inductors; Match Code: WE-TI; ComponentLink1Description: Website Link; ComponentLink1URL: https://www.we-online.com/redexpert/article/7447452221?ad; ComponentLink2Description: Datasheet Link; ComponentLink2URL: https://www.we-online.com/redexpert/spec/7447452221?ad; Mount: Through Hole; Operating Temperature Max: 125°C; Operating Temperature Min: -40°C; Packaging: Tray; Height: 13.5mm; Diameter: 9.5mm; DC Resistance Max: 0.29Ohm; Inductance: 220uH; Rated Current: 1.2A
footprint WE-TI_8012
simulation model 8012_7447452221_220u
pins: 1, 2

## 7447452222
designator L?, comment 2200uH, 0.4A  (value not drawn)
WE-TI Radial Leaded Wire Wound Inductor, size 8012, 2200uH, 0.4A, 2.9Ohm; Manufacturer Part Number: 7447452222; Manufacturer: Wurth Elektronik; Case/Size Code: 8012; Self Resonant Frequency: 0.95MHz; Category: Power Inductors; Match Code: WE-TI; ComponentLink1Description: Website Link; ComponentLink1URL: https://www.we-online.com/redexpert/article/7447452222?ad; ComponentLink2Description: Datasheet Link; ComponentLink2URL: https://www.we-online.com/redexpert/spec/7447452222?ad; Mount: Through Hole; Operating Temperature Max: 125°C; Operating Temperature Min: -40°C; Packaging: Tray; Height: 13.5mm; Diameter: 9.5mm; DC Resistance Max: 2.9Ohm; Inductance: 2200uH; Rated Current: 0.4A; Saturation Current @ 10%: 0.4A
footprint WE-TI_8012
simulation model 8012_7447452222_2200u
pins: 1, 2

## 7447452331
designator L?, comment 330uH, 1.1A  (value not drawn)
WE-TI Radial Leaded Wire Wound Inductor, size 8012, 330uH, 1.1A, 0.47Ohm; Manufacturer Part Number: 7447452331; Manufacturer: Wurth Elektronik; Case/Size Code: 8012; Saturation Current @ 10%: 0.85A; Self Resonant Frequency: 2.6MHz; Category: Power Inductors; Match Code: WE-TI; ComponentLink1Description: Website Link; ComponentLink1URL: https://www.we-online.com/redexpert/article/7447452331?ad; ComponentLink2Description: Datasheet Link; ComponentLink2URL: https://www.we-online.com/redexpert/spec/7447452331?ad; Mount: Through Hole; Operating Temperature Max: 125°C; Operating Temperature Min: -40°C; Packaging: Tray; Height: 13.5mm; Diameter: 9.5mm; DC Resistance Max: 0.47Ohm; Inductance: 330uH; Rated Current: 1.1A
footprint WE-TI_8012
simulation model 8012_7447452331_330u
pins: 1, 2